# EAGLE library part MARDUINO_D0-7 (library Arduino-shield-scaffolds)
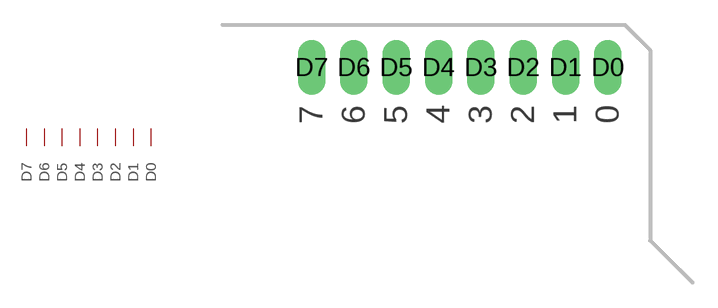
[diagram p1: symbol with the pads of MARDUINO_DO-7; footprint MARDUINO_DO-7]

Designator prefix -

## MARDUINO_D0-7  [MARDUINO_DO-7]
D0  D0
D1  D1
D2  D2
D3  D3
D4  D4
D5  D5
D6  D6
D7  D7

## Footprint MARDUINO_DO-7 (pad centres in mm)
Arduino Modular Shield Scaffold Digital pins 0..7
drill 1.1 long: D0 63.5,50.8; D1 60.96,50.8; D2 58.42,50.8; D3 55.88,50.8; D4 53.34,50.8; D5 50.8,50.8; D6 48.26,50.8; D7 45.72,50.8